# EAGLE library part TPA6203A1 (library X893)
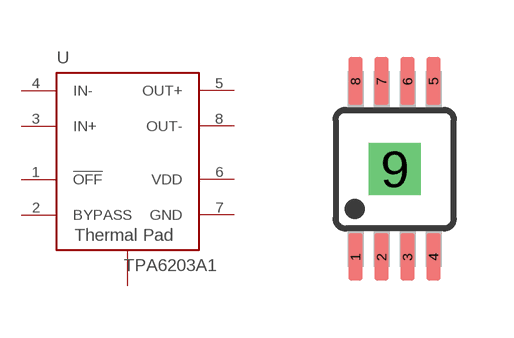
[diagram p22: symbol with the pads of MSOP8-THERMAL; footprint MSOP8-THERMAL]

Designator prefix U

## TPA6203A1DGNR  [MSOP8-THERMAL]
1  !OFF  pas
2  BYPASS  pas
3  IN+  pas
4  IN-  pas
5  OUT+  pas
6  VDD  pas
7  GND  sup
8  OUT-  pas
9  GND  sup

## Footprint MSOP8-THERMAL (pad centres in mm)
8M, 8-Lead, 0.118" Wide with Thermal pad, Miniature Small Outline Package MSOP 8M-Package doc1097.pdf
smd 0.35 x 1.2: 1 -0.975,-2.2; 2 -0.325,-2.2; 3 0.325,-2.2; 4 0.975,-2.2; 5 0.975,2.2; 6 0.325,2.2; 7 -0.325,2.2; 8 -0.975,2.2
drill 0.8 pad 1.2 square: 9 0,0